# EAGLE library part AS6200 (library Temp_IC)
IC SENSOR TEMP SMD Datasheet <http://ams.com/eng/content/download/900532/2174147/403735>
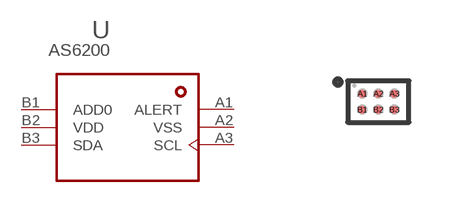
[diagram p2: symbol with the pads of WLCSP-6; footprint WLCSP-6]

Designator prefix U

## AS6200 (ACC: ±0.4°C (±1°C); DATASHEET: http://ams.com/eng/content/download/900532/2174147/403735; DESC: IC SENSOR TEMP SMD; FEAT: Standby Mode; MANF: AMS; MFPN: AS6200-AWLT-S; PARTNO: NEW; SIZE: 6-WLCSP; STATUS: Active; TEMP: -40°C ~ 125°C; TYPE: Digital, Local; VSUP: 1.8V ~ 3.6V)  [WLCSP-6]
A1  ALERT  out
A2  VSS  pwr
A3  SCL  in
B1  ADD0  in
B2  VDD  pwr
B3  SDA

## Footprint WLCSP-6 (pad centres in mm)
6-WLCSP Ball Grid Array (BGA), 0.40 mm pitch, rect.; 6 pin, 1.49 mm L X 1.00 mm W
smd 0.2 x 0.2: A1 -0.4,0.2; A2 0,0.2; A3 0.4,0.2; B1 -0.4,-0.2; B2 0,-0.2; B3 0.4,-0.2